# Altium footprint library AMPHENOL_68001-403HLF.PcbLib: 1 footprints
Each footprint in its own frame and in the unit in brackets; x right, y up, seen from the top. Pads: shape width x height; smd on the part's side, far side on the other; paste and mask are expansions set on the pad; w line width, h text height; cw(c..) or ccw(c..) is an arc to the next point about the centre after c.
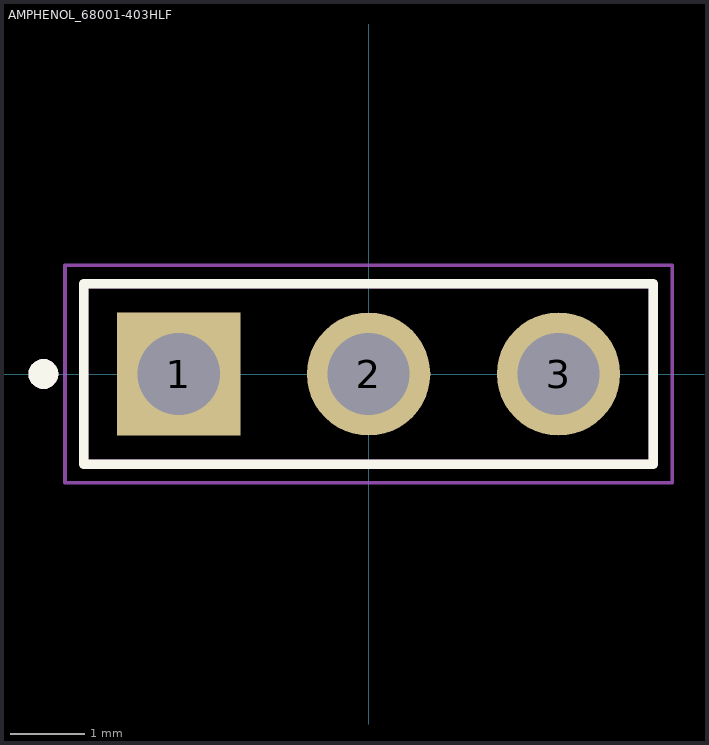
[diagram p0: the footprint, top view; thin cyan lines are the x and y axes]

## AMPHENOL_68001-403HLF [mm]
height 8.58
pads (3):
  rect 1.65x1.65 / inner round 1.65 / far side rect 1.65x1.65 hole 1.1: 1(-2.54,0)
  round 1.65 hole 1.1: 2(0,0) 3(2.54,0)
Top Overlay:
  circle w0.2: c-4.35,0 r0.1
  lines w0.127: -3.81,-1.205 -3.81,1.205 3.81,1.205 3.81,-1.205 -3.81,-1.205
Mechanical 13:
  circle w0.2: c-4.35,0 r0.1
  lines w0.127: -3.81,-1.205 -3.81,1.205 3.81,1.205 3.81,-1.205 -3.81,-1.205
Mechanical 15:
  lines w0.05: -4.06,-1.455 -4.06,1.455 4.06,1.455 4.06,-1.455 -4.06,-1.455
3D body "step_temp.STEP": height 8.38, standoff -3.05, extent -3.81,-1.205 3.81,1.205